# Altium footprint library CERAMICO.PcbLib: 1 footprints
Each footprint in its own frame and in the unit in brackets; x right, y up, seen from the top. Pads: shape width x height; smd on the part's side, far side on the other; paste and mask are expansions set on the pad; w line width, h text height; cw(c..) or ccw(c..) is an arc to the next point about the centre after c.
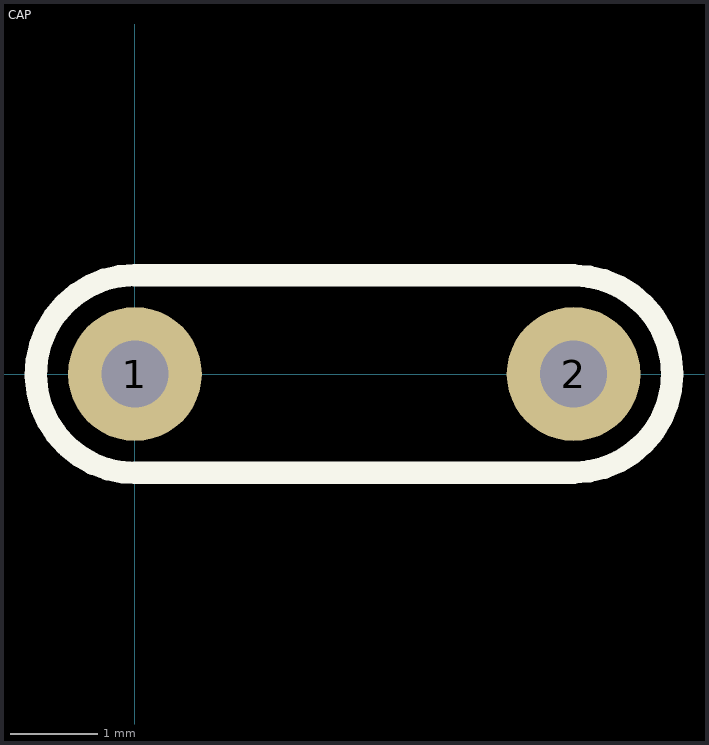
[diagram p0: the footprint, top view; thin cyan lines are the x and y axes]

## CAP [mil]
pads (2):
  round 60 hole 30: 1(0,0) 2(196.85,0)
Top Overlay:
  lines w10: 0,-44.29 196.85,-44.29 ; 0,44.29 196.85,44.29 ; 0,44.47 ccw(c0,0) 1.74,-44.43 ; 196.85,-44.24 ccw(c196.85,0) 196.85,44.24